# EAGLE library part MAX740X (library chips)
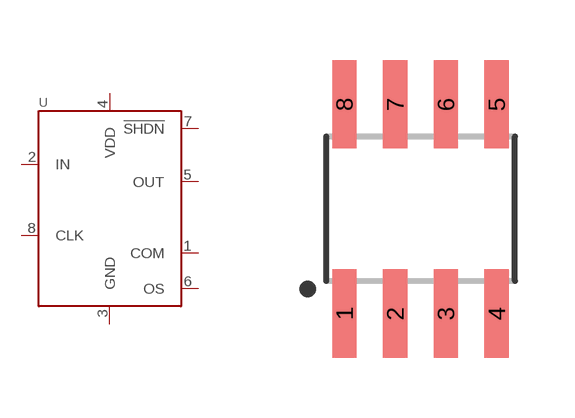
[diagram p87: symbol with the pads of SOIC-8; footprint SOIC-8]

Designator prefix U

## MAX740XESA (ROCHESTER_ELECTRONICS: MAX7405ESA)  [SOIC-8]
1  COM
2  IN
3  GND
4  VDD
5  OUT
6  OS
7  !SHDN
8  CLK

## Footprint SOIC-8 (pad centres in mm)
smd 0.61 x 2.21: 1 -1.905,-2.616; 2 -0.635,-2.616; 3 0.635,-2.616; 4 1.905,-2.616; 5 1.905,2.616; 6 0.635,2.616; 7 -0.635,2.616; 8 -1.905,2.616